# EAGLE library part W5500 (library IC_Interface)
Ethernet Controller 10/100 Base-T/TX PHY SPI Interface 48-LQFP (7x7) Datasheet <https://cdn.sparkfun.com/datasheets/Dev/Arduino/Shields/W5500_datasheet_v1.0.2_1.pdf>
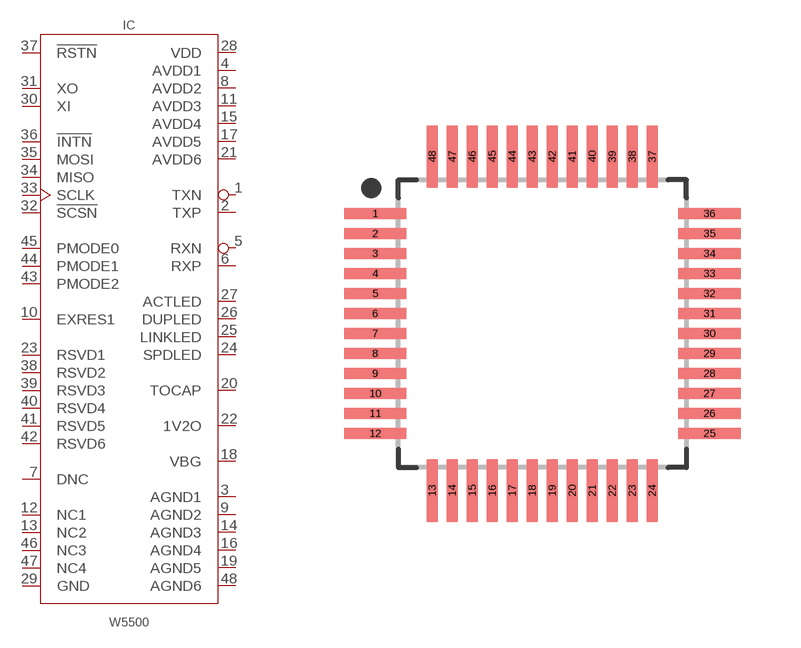
[diagram p0: symbol with the pads of QFP50P900X900X160-48N; footprint QFP50P900X900X160-48N]

Designator prefix IC

## W5500_LQFP (CATEGORY: IC_Interface; MANUFACTURER: Wiznet; MPN: W5500; OPERATING_TEMP: -40 to +85°C; PART_STATUS: Active; ROHS_COMPLIANT: Rohs3 Compliant; SUB-CATEGORY: Controller; TYPE: Ethernet)  [QFP50P900X900X160-48N]
1  TXN  out
2  TXP  out
3  AGND1  pwr
4  AVDD1  pwr
5  RXN  in
6  RXP  in
7  DNC
8  AVDD2  pwr
9  AGND2  pwr
10  EXRES1
11  AVDD3  pwr
12  NC1  nc
13  NC2  nc
14  AGND3  pwr
15  AVDD4  pwr
16  AGND4  pwr
17  AVDD5  pwr
18  VBG  out
19  AGND5  pwr
20  TOCAP  out
21  AVDD6  pwr
22  1V2O  out
23  RSVD1  in
24  SPDLED  out
25  LINKLED  out
26  DUPLED  out
27  ACTLED  out
28  VDD  pwr
29  GND  pas
30  XI  in
31  XO  out
32  !SCSN  in
33  SCLK  in
34  MISO  out
35  MOSI  in
36  !INTN  in
37  !RSTN  in
38  RSVD2  in
39  RSVD3  in
40  RSVD4  in
41  RSVD5  in
42  RSVD6  in
43  PMODE2  in
44  PMODE1  in
45  PMODE0  in
46  NC3  nc
47  NC4  nc
48  AGND6  pwr

## Footprint QFP50P900X900X160-48N (pad centres in mm)
48-QFP, 0.50 mm pitch, 9.00 mm span, 7.00 X 7.00 X 1.60 mm body 48-pin QFP package with 0.50 mm pitch, 9.00 mm lead span1 X 9.00 mm lead span2 with body size 7.00 X 7.00 X 1.60 mm
smd 1.559 x 0.28: 1 -4.178,2.75; 2 -4.178,2.25; 3 -4.178,1.75; 4 -4.178,1.25; 5 -4.178,0.75; 6 -4.178,0.25; 7 -4.178,-0.25; 8 -4.178,-0.75; 9 -4.178,-1.25; 10 -4.178,-1.75; 11 -4.178,-2.25; 12 -4.178,-2.75; 25 4.178,-2.75; 26 4.178,-2.25; 27 4.178,-1.75; 28 4.178,-1.25; 29 4.178,-0.75; 30 4.178,-0.25; 31 4.178,0.25; 32 4.178,0.75; 33 4.178,1.25; 34 4.178,1.75; 35 4.178,2.25; 36 4.178,2.75
smd 0.28 x 1.559: 13 -2.75,-4.178; 14 -2.25,-4.178; 15 -1.75,-4.178; 16 -1.25,-4.178; 17 -0.75,-4.178; 18 -0.25,-4.178; 19 0.25,-4.178; 20 0.75,-4.178; 21 1.25,-4.178; 22 1.75,-4.178; 23 2.25,-4.178; 24 2.75,-4.178; 37 2.75,4.178; 38 2.25,4.178; 39 1.75,4.178; 40 1.25,4.178; 41 0.75,4.178; 42 0.25,4.178; 43 -0.25,4.178; 44 -0.75,4.178; 45 -1.25,4.178; 46 -1.75,4.178; 47 -2.25,4.178; 48 -2.75,4.178